# Altium footprint library J 接插件.PcbLib: 458 footprints (part 22 of 29)
Each footprint in its own frame and in the unit in brackets; x right, y up, seen from the top. Pads: shape width x height; smd on the part's side, far side on the other; paste and mask are expansions set on the pad; w line width, h text height; cw(c..) or ccw(c..) is an arc to the next point about the centre after c.
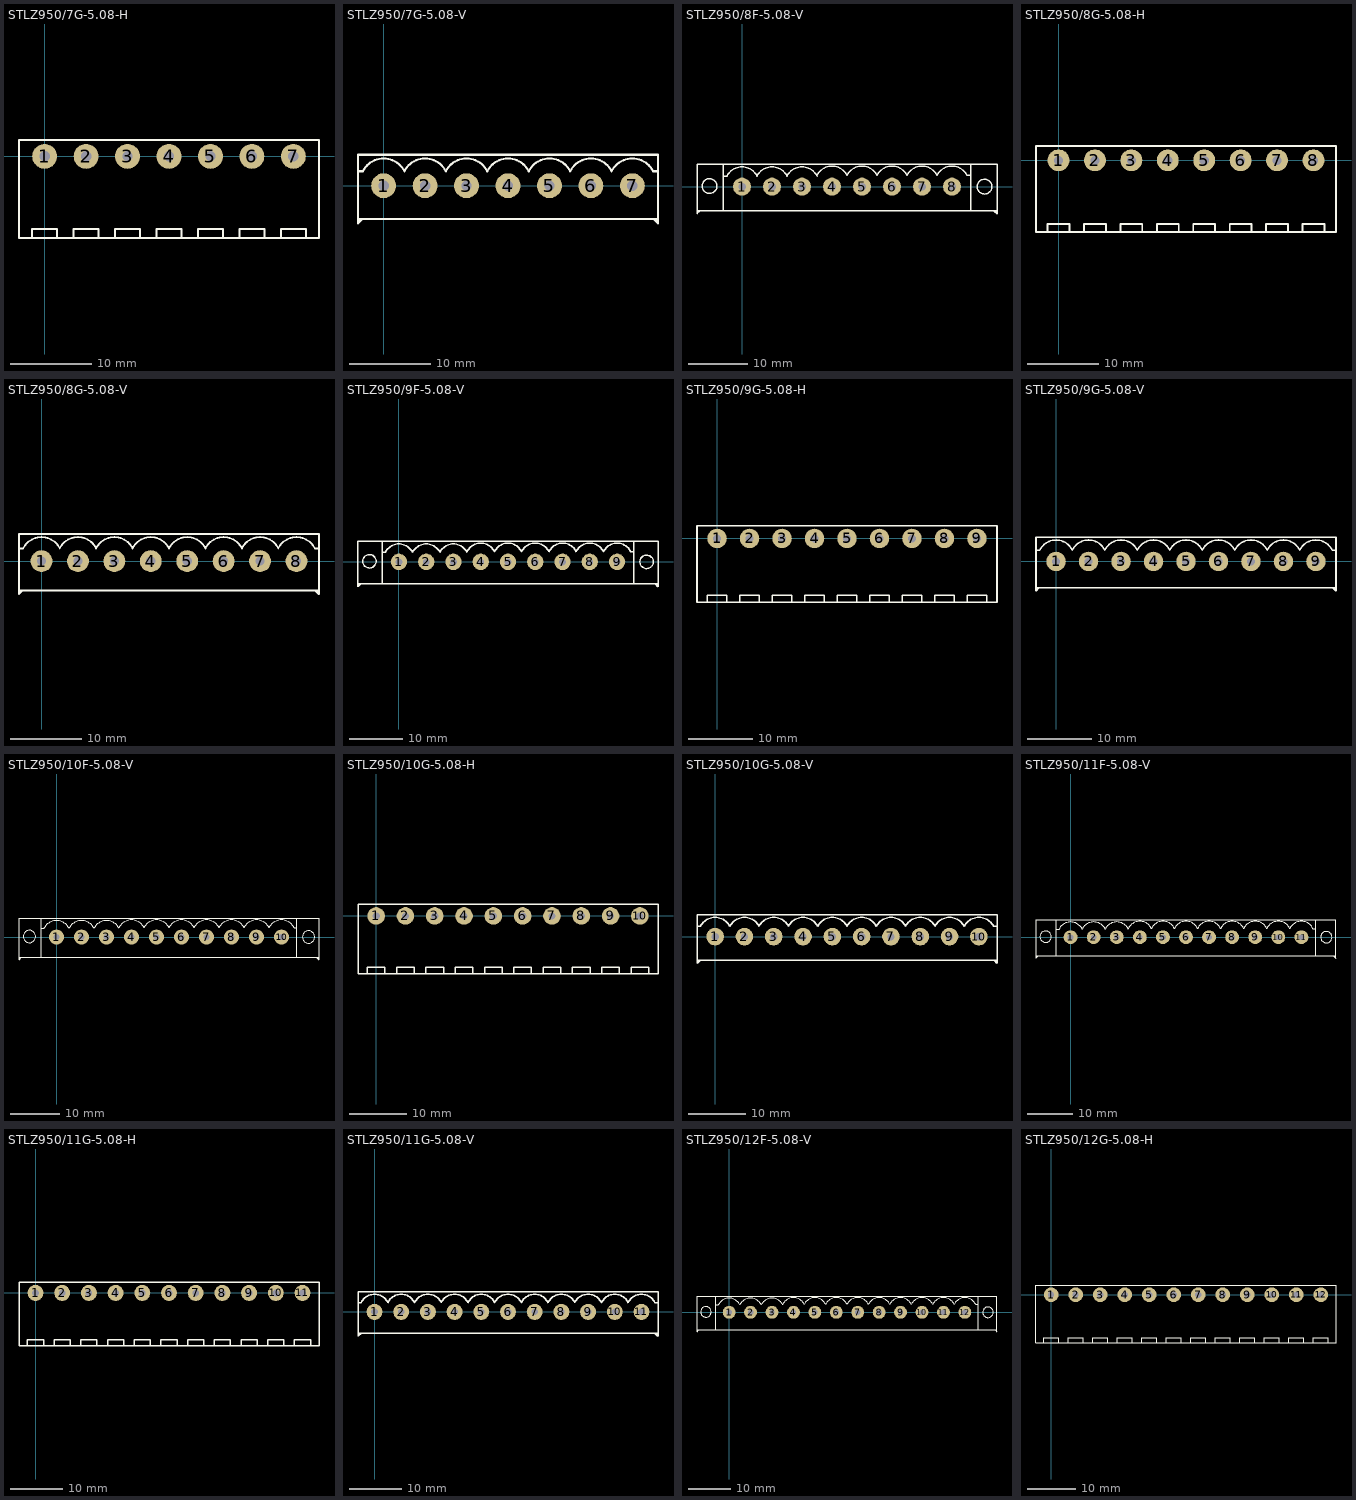
[diagram p21: the footprints below, top view; thin cyan lines are the x and y axes]

## STLZ950/7G-5.08-H [mil] "美卡诺 STLZ950接触件座  间距：5.08  7Pin   弯角"
height 330.71
pads (7):
  round 120 hole 50: 1(0,0) 2(200,0) 3(400,0) 4(600,0) 5(800,0) 6(1000,0) 7(1200,0)
Top Overlay:
  lines w10: -60,-390 -60,-350 60,-350 60,-390 ; 140,-390 140,-350 260,-350 260,-390 ; 340,-390 340,-350 460,-350 460,-390 ; 540,-390 540,-350 660,-350 660,-390 ; 740,-390 740,-350 860,-350 860,-390 ; 940,-390 940,-350 1060,-350 1060,-390 ; 1140,-390 1140,-350 1260,-350 1260,-390 ; -123.62,-393.7 1323.62,-393.7 1323.62,78.74 -123.62,78.74 -123.62,-393.7

## STLZ950/7G-5.08-V [mil] "美卡诺 STLZ950 接触件座  间距：5.08   7Pin"
height 826.77
pads (7):
  round 120 hole 50: 1(0,0) 2(200,0) 3(400,0) 4(600,0) 5(800,0) 6(1000,0) 7(1200,0)
Top Overlay:
  lines w10: -123.62,-181.1 -123.62,149.61 1323.62,149.61 1323.62,-181.1 ; -123.62,-161.42 1323.62,-161.42 ; -122.05,-180.12 -104.82,-162.89 ; -120,70 -100,70 cw(c0,20) 100,70 cw(c200,20) 300,70 cw(c400,20) 500,70 cw(c600,20) 700,70 cw(c800,20) 900,70 cw(c1000,20) 1100,70 cw(c1200,20) 1300,70 1320,70 ; -116.14,-172.24 -116.14,-164.37 ; 1303.64,-161.91 1322.83,-181.1 ; 1317.91,-171.26 1317.91,-162.4

## STLZ950/8F-5.08-V [mil] "美卡诺 STLZ950 接触件座  间距：5.08   8Pin  带螺丝"
height 826.77
pads (8):
  round 120 hole 50: 1(0,0) 2(200,0) 3(400,0) 4(600,0) 5(800,0) 6(1000,0) 7(1200,0) 8(1400,0)
Top Overlay:
  circle w10: c1616.54,0 r49.21
  circle w10: c-216.54,3.94 r49.21
  lines w10: -300,-181.1 -300,149.61 1700,149.61 1700,-181.1 ; -300,-161.42 1700,-161.42 ; -299.21,-180.12 -281.99,-162.89 ; -293.31,-172.24 -293.31,-164.37 ; -123.62,-161.42 -123.62,149.61 ; -120,70 -100,70 cw(c0,20) 100,70 cw(c200,20) 300,70 cw(c400,20) 500,70 ; 500,75 cw(c600,25) 700,75 cw(c800,25) 900,75 cw(c1000,25) 1100,75 cw(c1200,25) 1300,75 cw(c1400,25) 1500,75 1520,75 ; 1523.62,-161.42 1523.62,149.61 ; 1682,-164 1699.22,-181.22 ; 1690,-165 1697.87,-165

## STLZ950/8G-5.08-H [mil] "美卡诺 STLZ950接触件座  间距：5.08  8Pin   弯角"
height 330.71
pads (8):
  round 120 hole 50: 1(0,0) 2(200,0) 3(400,0) 4(600,0) 5(800,0) 6(1000,0) 7(1200,0) 8(1400,0)
Top Overlay:
  lines w10: -60,-390 -60,-350 60,-350 60,-390 ; 140,-390 140,-350 260,-350 260,-390 ; 340,-390 340,-350 460,-350 460,-390 ; 540,-390 540,-350 660,-350 660,-390 ; 740,-390 740,-350 860,-350 860,-390 ; 940,-390 940,-350 1060,-350 1060,-390 ; 1140,-390 1140,-350 1260,-350 1260,-390 ; 1340,-390 1340,-350 1460,-350 1460,-390 ; -123.62,-393.7 -123.62,78.74 1523.62,78.74 1523.62,-393.7 -123.62,-393.7

## STLZ950/8G-5.08-V [mil] "美卡诺 STLZ950 接触件座  间距：5.08   8Pin"
height 826.77
pads (8):
  round 120 hole 50: 1(0,0) 2(200,0) 3(400,0) 4(600,0) 5(800,0) 6(1000,0) 7(1200,0) 8(1400,0)
Top Overlay:
  lines w10: -123.62,-181.1 -123.62,149.61 1523.62,149.61 1523.62,-181.1 ; -123.62,-161.42 1523.62,-161.42 ; -122.05,-180.12 -104.82,-162.89 ; -120,70 -100,70 cw(c0,20) 100,70 cw(c200,20) 300,70 cw(c400,20) 500,70 cw(c600,20) 700,70 cw(c800,20) 900,70 cw(c1000,20) 1100,70 cw(c1200,20) 1300,70 cw(c1400,20) 1500,70 1520,70 ; -116.14,-172.24 -116.14,-164.37 ; 1503.64,-161.91 1522.83,-181.1 ; 1517.91,-171.26 1517.91,-162.4

## STLZ950/9F-5.08-V [mil] "美卡诺 STLZ950 接触件座  间距：5.08   9Pin  带螺丝"
height 826.77
pads (9):
  round 120 hole 50: 1(0,0) 2(200,0) 3(400,0) 4(600,0) 5(800,0) 6(1000,0) 7(1200,0) 8(1400,0) 9(1600,0)
Top Overlay:
  circle w10: c1816.54,0 r49.21
  circle w10: c-216.54,3.94 r49.21
  lines w10: -300,-181.1 -300,149.61 1900,149.61 1900,-181.1 ; -300,-161.42 1900,-161.42 ; -299.21,-180.12 -281.99,-162.89 ; -293.31,-172.24 -293.31,-164.37 ; -123.62,-161.42 -123.62,149.61 ; -120,70 -100,70 cw(c0,20) 100,70 cw(c200,20) 300,70 cw(c400,20) 500,70 ; 500,75 cw(c600,25) 700,75 cw(c800,25) 900,75 cw(c1000,25) 1100,75 cw(c1200,25) 1300,75 cw(c1400,25) 1500,75 cw(c1600,25) 1700,75 1720,75 ; 1723.62,-161.42 1723.62,149.61 ; 1882,-164 1899.22,-181.22 ; 1890,-165 1897.87,-165

## STLZ950/9G-5.08-H [mil] "美卡诺 STLZ950接触件座  间距：5.08  9Pin   弯角"
height 330.71
pads (9):
  round 120 hole 50: 1(0,0) 2(200,0) 3(400,0) 4(600,0) 5(800,0) 6(1000,0) 7(1200,0) 8(1400,0) 9(1600,0)
Top Overlay:
  lines w10: -60,-390 -60,-350 60,-350 60,-390 ; 140,-390 140,-350 260,-350 260,-390 ; 340,-390 340,-350 460,-350 460,-390 ; 540,-390 540,-350 660,-350 660,-390 ; 740,-390 740,-350 860,-350 860,-390 ; 940,-390 940,-350 1060,-350 1060,-390 ; 1140,-390 1140,-350 1260,-350 1260,-390 ; 1340,-390 1340,-350 1460,-350 1460,-390 ; 1540,-390 1540,-350 1660,-350 1660,-390 ; -123.62,-393.7 1723.62,-393.7 1723.62,78.74 -123.62,78.74 -123.62,-393.7

## STLZ950/9G-5.08-V [mil] "美卡诺 STLZ950 接触件座  间距：5.08   9Pin"
height 826.77
pads (9):
  round 120 hole 50: 1(0,0) 2(200,0) 3(400,0) 4(600,0) 5(800,0) 6(1000,0) 7(1200,0) 8(1400,0) 9(1600,0)
Top Overlay:
  lines w10: -123.62,-181.1 -123.62,149.61 1723.62,149.61 1723.62,-181.1 ; -123.62,-161.42 1723.62,-161.42 ; -122.05,-180.12 -104.82,-162.89 ; -120,70 -100,70 cw(c0,20) 100,70 cw(c200,20) 300,70 cw(c400,20) 500,70 cw(c600,20) 700,70 cw(c800,20) 900,70 cw(c1000,20) 1100,70 cw(c1200,20) 1300,70 cw(c1400,20) 1500,70 cw(c1600,20) 1700,70 1720,70 ; -116.14,-172.24 -116.14,-164.37 ; 1703.64,-161.91 1722.83,-181.1 ; 1717.91,-171.26 1717.91,-162.4

## STLZ950/10F-5.08-V [mil] "美卡诺 STLZ950 接触件座  间距：5.08   10Pin  带螺丝"
height 826.77
pads (10):
  round 120 hole 50: 1(0,0) 2(200,0) 3(400,0) 4(600,0) 5(800,0) 6(1000,0) 7(1200,0) 8(1400,0) 9(1600,0) 10(1800,0)
Top Overlay:
  circle w10: c2016.54,0 r49.21
  circle w10: c-216.54,3.94 r49.21
  lines w10: -300,-181.1 -300,149.61 2100,149.61 2100,-181.1 ; -300,-161.42 2100,-161.42 ; -299.21,-180.12 -281.99,-162.89 ; -293.31,-172.24 -293.31,-164.37 ; -123.62,-161.42 -123.62,149.61 ; -120,70 -100,70 cw(c0,20) 100,70 cw(c200,20) 300,70 cw(c400,20) 500,70 ; 500,75 cw(c600,25) 700,75 cw(c800,25) 900,75 cw(c1000,25) 1100,75 cw(c1200,25) 1300,75 cw(c1400,25) 1500,75 cw(c1600,25) 1700,75 cw(c1800,25) 1900,75 1920,75 ; 1923.62,-161.42 1923.62,149.61 ; 2082,-164 2099.22,-181.22 ; 2090,-165 2097.87,-165

## STLZ950/10G-5.08-H [mil] "美卡诺 STLZ950接触件座  间距：5.08  10Pin   弯角"
height 330.71
pads (10):
  round 120 hole 50: 1(0,0) 2(200,0) 3(400,0) 4(600,0) 5(800,0) 6(1000,0) 7(1200,0) 8(1400,0) 9(1600,0) 10(1800,0)
Top Overlay:
  lines w10: -60,-390 -60,-350 60,-350 60,-390 ; 140,-390 140,-350 260,-350 260,-390 ; 340,-390 340,-350 460,-350 460,-390 ; 540,-390 540,-350 660,-350 660,-390 ; 740,-390 740,-350 860,-350 860,-390 ; 940,-390 940,-350 1060,-350 1060,-390 ; 1140,-390 1140,-350 1260,-350 1260,-390 ; 1340,-390 1340,-350 1460,-350 1460,-390 ; 1540,-390 1540,-350 1660,-350 1660,-390 ; 1740,-390 1740,-350 1860,-350 1860,-390 ; -123.62,-393.7 -123.62,78.74 1923.62,78.74 1923.62,-393.7 -123.62,-393.7

## STLZ950/10G-5.08-V [mil] "美卡诺 STLZ950 接触件座  间距：5.08   10Pin"
height 826.77
pads (10):
  round 120 hole 50: 1(0,0) 2(200,0) 3(400,0) 4(600,0) 5(800,0) 6(1000,0) 7(1200,0) 8(1400,0) 9(1600,0) 10(1800,0)
Top Overlay:
  lines w10: -123.62,-181.1 -123.62,149.61 1923.62,149.61 1923.62,-181.1 ; -123.62,-161.42 1923.62,-161.42 ; -122.05,-180.12 -104.82,-162.89 ; -120,70 -100,70 cw(c0,20) 100,70 cw(c200,20) 300,70 cw(c400,20) 500,70 cw(c600,20) 700,70 cw(c800,20) 900,70 cw(c1000,20) 1100,70 cw(c1200,20) 1300,70 cw(c1400,20) 1500,70 cw(c1600,20) 1700,70 cw(c1800,20) 1900,70 1920,70 ; -116.14,-172.24 -116.14,-164.37 ; 1903.64,-161.91 1922.83,-181.1 ; 1917.91,-171.26 1917.91,-162.4

## STLZ950/11F-5.08-V [mil] "美卡诺 STLZ950 接触件座  间距：5.08   11Pin  带螺丝"
height 826.77
pads (11):
  round 120 hole 50: 1(0,0) 2(200,0) 3(400,0) 4(600,0) 5(800,0) 6(1000,0) 7(1200,0) 8(1400,0) 9(1600,0) 10(1800,0) 11(2000,0)
Top Overlay:
  circle w10: c-216.54,3.94 r49.21
  circle w10: c2216.54,0 r49.21
  lines w10: -300,-181.1 -300,149.61 2300,149.61 2300,-181.1 ; -300,-161.42 2300,-161.42 ; -299.21,-180.12 -281.99,-162.89 ; -293.31,-172.24 -293.31,-164.37 ; -123.62,-161.42 -123.62,149.61 ; -120,70 -100,70 cw(c0,20) 100,70 cw(c200,20) 300,70 cw(c400,20) 500,70 ; 500,75 cw(c600,25) 700,75 cw(c800,25) 900,75 cw(c1000,25) 1100,75 cw(c1200,25) 1300,75 cw(c1400,25) 1500,75 cw(c1600,25) 1700,75 cw(c1800,25) 1900,75 cw(c2000,25) 2100,75 2120,75 ; 2123.62,-161.42 2123.62,149.61 ; 2282,-164 2299.22,-181.22 ; 2290,-165 2297.87,-165

## STLZ950/11G-5.08-H [mil] "美卡诺 STLZ950接触件座  间距：5.08  11Pin   弯角"
height 330.71
pads (11):
  round 120 hole 50: 1(0,0) 2(200,0) 3(400,0) 4(600,0) 5(800,0) 6(1000,0) 7(1200,0) 8(1400,0) 9(1600,0) 10(1800,0) 11(2000,0)
Top Overlay:
  lines w10: -60,-390 -60,-350 60,-350 60,-390 ; 140,-390 140,-350 260,-350 260,-390 ; 340,-390 340,-350 460,-350 460,-390 ; 540,-390 540,-350 660,-350 660,-390 ; 740,-390 740,-350 860,-350 860,-390 ; 940,-390 940,-350 1060,-350 1060,-390 ; 1140,-390 1140,-350 1260,-350 1260,-390 ; 1340,-390 1340,-350 1460,-350 1460,-390 ; 1540,-390 1540,-350 1660,-350 1660,-390 ; 1740,-390 1740,-350 1860,-350 1860,-390 ; 1940,-390 1940,-350 2060,-350 2060,-390 ; -123.62,-393.7 2123.62,-393.7 2123.62,78.74 -123.62,78.74 -123.62,-393.7

## STLZ950/11G-5.08-V [mil] "美卡诺 STLZ950 接触件座  间距：5.08   11Pin"
height 826.77
pads (11):
  round 120 hole 50: 1(0,0) 2(200,0) 3(400,0) 4(600,0) 5(800,0) 6(1000,0) 7(1200,0) 8(1400,0) 9(1600,0) 10(1800,0) 11(2000,0)
Top Overlay:
  lines w10: -123.62,-181.1 -123.62,149.61 2123.62,149.61 2123.62,-181.1 ; -123.62,-161.42 2123.62,-161.42 ; -122.05,-180.12 -104.82,-162.89 ; -120,70 -100,70 cw(c0,20) 100,70 cw(c200,20) 300,70 cw(c400,20) 500,70 cw(c600,20) 700,70 cw(c800,20) 900,70 cw(c1000,20) 1100,70 cw(c1200,20) 1300,70 cw(c1400,20) 1500,70 cw(c1600,20) 1700,70 cw(c1800,20) 1900,70 cw(c2000,20) 2100,70 2120,70 ; -116.14,-172.24 -116.14,-164.37 ; 2103.64,-161.91 2122.83,-181.1 ; 2117.91,-171.26 2117.91,-162.4

## STLZ950/12F-5.08-V [mil] "美卡诺 STLZ950 接触件座  间距：5.08   12Pin  带螺丝"
height 826.77
pads (12):
  round 120 hole 50: 1(0,0) 2(200,0) 3(400,0) 4(600,0) 5(800,0) 6(1000,0) 7(1200,0) 8(1400,0) 9(1600,0) 10(1800,0) 11(2000,0) 12(2200,0)
Top Overlay:
  circle w10: c2416.54,0 r49.21
  circle w10: c-216.54,3.94 r49.21
  lines w10: -300,-181.1 -300,149.61 2500,149.61 2500,-181.1 ; -300,-161.42 2500,-161.42 ; -299.21,-180.12 -281.99,-162.89 ; -293.31,-172.24 -293.31,-164.37 ; -123.62,-161.42 -123.62,149.61 ; -120,70 -100,70 cw(c0,20) 100,70 cw(c200,20) 300,70 cw(c400,20) 500,70 ; 500,75 cw(c600,25) 700,75 cw(c800,25) 900,75 cw(c1000,25) 1100,75 cw(c1200,25) 1300,75 cw(c1400,25) 1500,75 cw(c1600,25) 1700,75 cw(c1800,25) 1900,75 cw(c2000,25) 2100,75 cw(c2200,25) 2300,75 2320,75 ; 2323.62,-161.42 2323.62,149.61 ; 2482,-164 2499.22,-181.22 ; 2490,-165 2497.87,-165

## STLZ950/12G-5.08-H [mil] "美卡诺 STLZ950接触件座  间距：5.08  12Pin   弯角"
height 330.71
pads (12):
  round 120 hole 50: 1(0,0) 2(200,0) 3(400,0) 4(600,0) 5(800,0) 6(1000,0) 7(1200,0) 8(1400,0) 9(1600,0) 10(1800,0) 11(2000,0) 12(2200,0)
Top Overlay:
  lines w10: -60,-390 -60,-350 60,-350 60,-390 ; 140,-390 140,-350 260,-350 260,-390 ; 340,-390 340,-350 460,-350 460,-390 ; 540,-390 540,-350 660,-350 660,-390 ; 740,-390 740,-350 860,-350 860,-390 ; 940,-390 940,-350 1060,-350 1060,-390 ; 1140,-390 1140,-350 1260,-350 1260,-390 ; 1340,-390 1340,-350 1460,-350 1460,-390 ; 1540,-390 1540,-350 1660,-350 1660,-390 ; 1740,-390 1740,-350 1860,-350 1860,-390 ; 1940,-390 1940,-350 2060,-350 2060,-390 ; 2140,-390 2140,-350 2260,-350 2260,-390 ; -123.62,-393.7 -123.62,78.74 2323.62,78.74 2323.62,-393.7 -123.62,-393.7